# Altium schematic symbol library LED_Readout_10mm_4digit.SchLib: 1 symbol
Pins are listed as number, name and electrical type; pins without a type are passive.

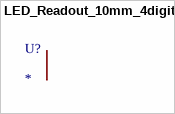
[diagram p0: symbol LED_Readout_10mm_4digit]

## LED_Readout_10mm_4digit
designator U?